# Altium footprint library HARTING Footprints.PcbLib: 317 footprints (part 12 of 20)
Each footprint in its own frame and in the unit in brackets; x right, y up, seen from the top. Pads: shape width x height; smd on the part's side, far side on the other; paste and mask are expansions set on the pad; w line width, h text height; cw(c..) or ccw(c..) is an arc to the next point about the centre after c.
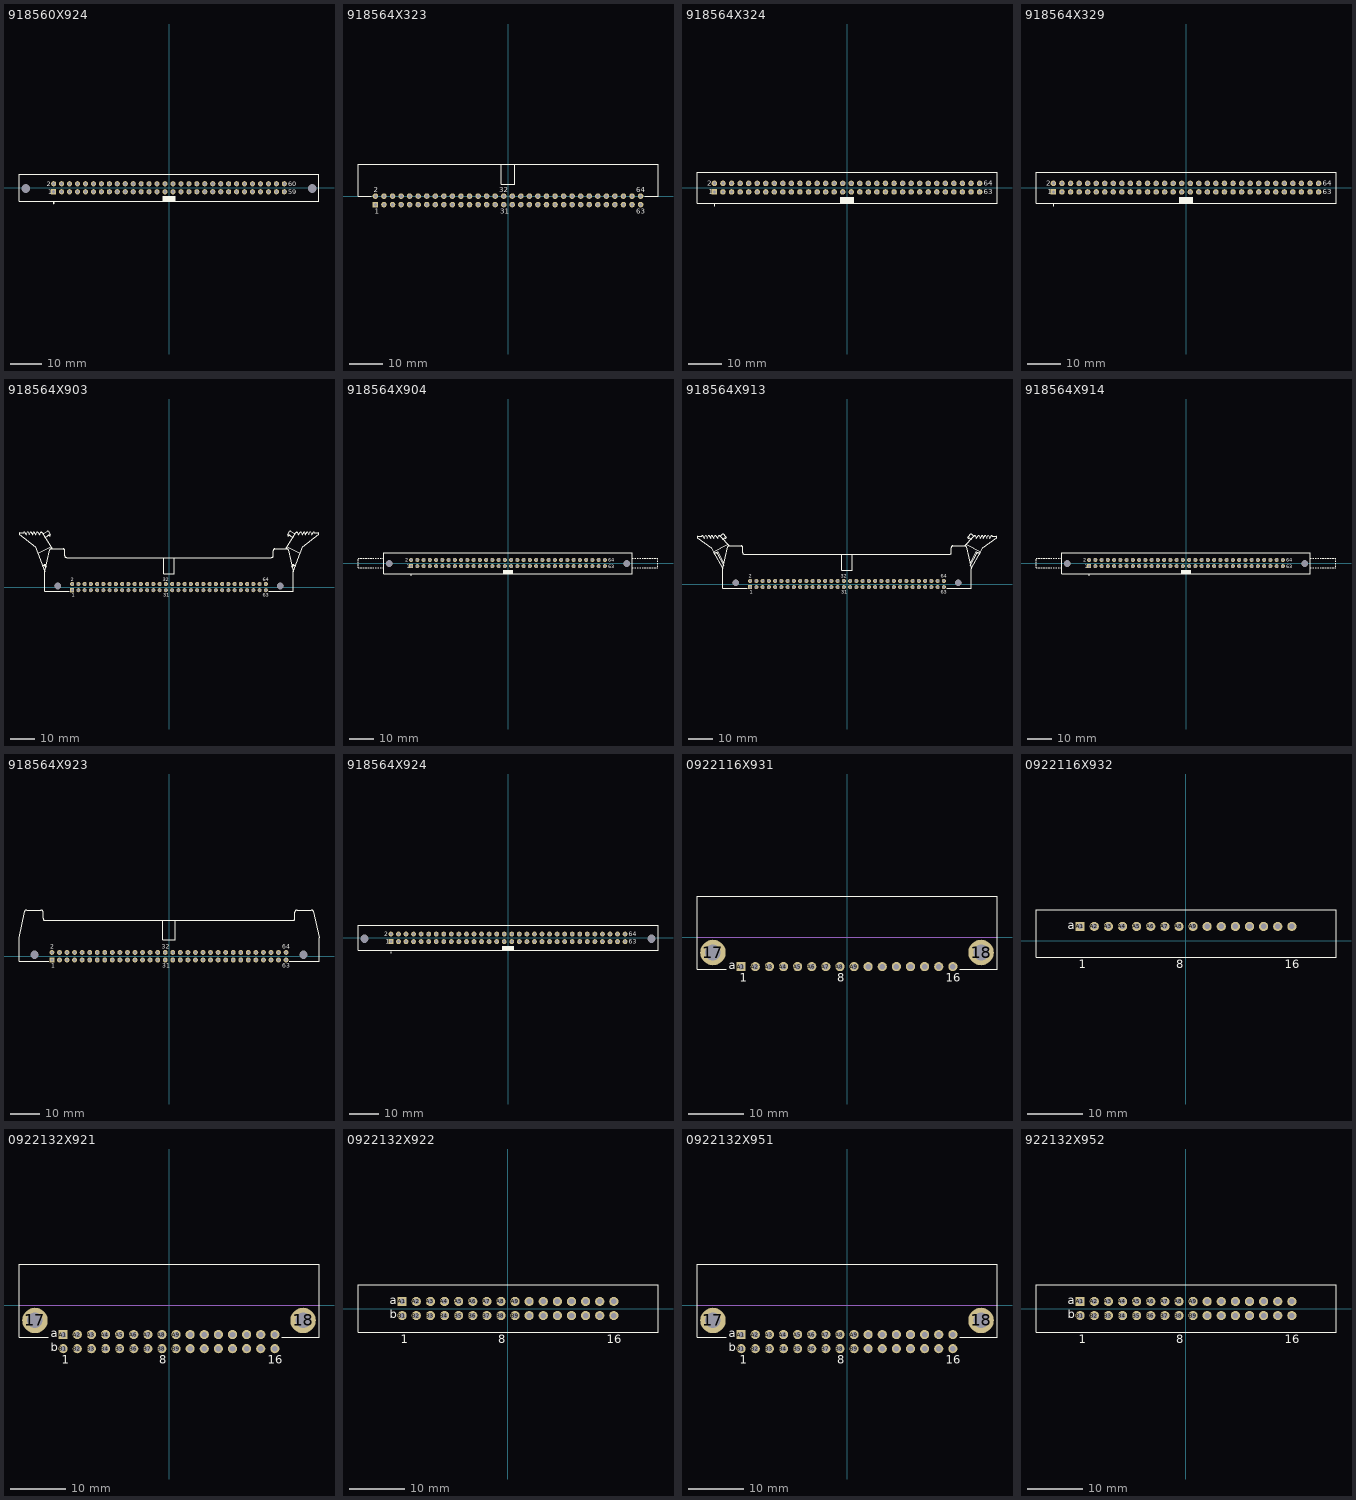
[diagram p11: the footprints below, top view; thin cyan lines are the x and y axes]

## 918560X924 [mm] "Connector; IDC, Thru-Hole; 60 Position; Vertical; Pitch 2.54 mm; Body 95.80 x 8.5 x 17.30 mm (LxWxH), Without locking levers"
height 17.3
pads (62):
  rect 1.65x1.65 hole 1: 1(-36.83,-1.27)
  round 1.65 hole 1: 2(-36.83,1.27) 3(-34.29,-1.27) 4(-34.29,1.27) 5(-31.75,-1.27) 6(-31.75,1.27) 7(-29.21,-1.27) 8(-29.21,1.27) 9(-26.67,-1.27) 10(-26.67,1.27) 11(-24.13,-1.27) 12(-24.13,1.27) 13(-21.59,-1.27) 14(-21.59,1.27) 15(-19.05,-1.27) 16(-19.05,1.27) 17(-16.51,-1.27) 18(-16.51,1.27) 19(-13.97,-1.27) 20(-13.97,1.27) 21(-11.43,-1.27) 22(-11.43,1.27) 23(-8.89,-1.27) 24(-8.89,1.27) 25(-6.35,-1.27) 26(-6.35,1.27) 27(-3.81,-1.27) 28(-3.81,1.27) 29(-1.27,-1.27) 30(-1.27,1.27) 31(1.27,-1.27) 32(1.27,1.27) 33(3.81,-1.27) 34(3.81,1.27) 35(6.35,-1.27) 36(6.35,1.27) 37(8.89,-1.27) 38(8.89,1.27) 39(11.43,-1.27) 40(11.43,1.27) 41(13.97,-1.27) 42(13.97,1.27) 43(16.51,-1.27) 44(16.51,1.27) 45(19.05,-1.27) 46(19.05,1.27) 47(21.59,-1.27) 48(21.59,1.27) 49(24.13,-1.27) 50(24.13,1.27) 51(26.67,-1.27) 52(26.67,1.27) 53(29.21,-1.27) 54(29.21,1.27) 55(31.75,-1.27) 56(31.75,1.27) 57(34.29,-1.27) 58(34.29,1.27) 59(36.83,-1.27) 60(36.83,1.27)
  round 2.5 hole 2.8 unplated: MH1(-45.72,-0.25) MH2(45.72,-0.25)
Top Overlay:
  circle w0.25: c-36.83,-4.9 r0.125
  rectangle: -2.05,-4.25 2.05,-2.7
  lines w0.2: -47.9,-4.25 47.9,-4.25 47.9,4.25 -47.9,4.25 -47.9,-4.25
  text "59" at 38.11,-2.02 h1.5
  text "60" at 38.11,0.52 h1.5
  text "1" at -38.61,-2.02 h1.5
  text "2" at -39.11,0.52 h1.5

## 918564X323 [mm] "Connector; IDC, Low Profile Male Header, Thru-Hole; 64 Position; Right Angle; Pitch 2.54 mm; Body 89.10 x 8.9 x 9.2 mm (LxWxH)"
height 9.2
pads (64):
  rect 1.65x1.65 hole 1: 1(-39.37,-2.54)
  round 1.65 hole 1: 2(-39.37,0) 3(-36.83,-2.54) 4(-36.83,0) 5(-34.29,-2.54) 6(-34.29,0) 7(-31.75,-2.54) 8(-31.75,0) 9(-29.21,-2.54) 10(-29.21,0) 11(-26.67,-2.54) 12(-26.67,0) 13(-24.13,-2.54) 14(-24.13,0) 15(-21.59,-2.54) 16(-21.59,0) 17(-19.05,-2.54) 18(-19.05,0) 19(-16.51,-2.54) 20(-16.51,0) 21(-13.97,-2.54) 22(-13.97,0) 23(-11.43,-2.54) 24(-11.43,0) 25(-8.89,-2.54) 26(-8.89,0) 27(-6.35,-2.54) 28(-6.35,0) 29(-3.81,-2.54) 30(-3.81,0) 31(-1.27,-2.54) 32(-1.27,0) 33(1.27,-2.54) 34(1.27,0) 35(3.81,-2.54) 36(3.81,0) 37(6.35,-2.54) 38(6.35,0) 39(8.89,-2.54) 40(8.89,0) 41(11.43,-2.54) 42(11.43,0) 43(13.97,-2.54) 44(13.97,0) 45(16.51,-2.54) 46(16.51,0) 47(19.05,-2.54) 48(19.05,0) 49(21.59,-2.54) 50(21.59,0) 51(24.13,-2.54) 52(24.13,0) 53(26.67,-2.54) 54(26.67,0) 55(29.21,-2.54) 56(29.21,0) 57(31.75,-2.54) 58(31.75,0) 59(34.29,-2.54) 60(34.29,0) 61(36.83,-2.54) 62(36.83,0) 63(39.37,-2.54) 64(39.37,0)
Top Overlay:
  lines w0.2: -40.595,0 -44.55,0 -44.55,9.45 44.55,9.45 44.55,0 40.595,0 ; -2.05,9.45 -2.05,3.48 2.05,3.48 2.05,9.45
  text "1" at -39.62,-5.24 h1.5
  text "2" at -39.87,1.2 h1.5
  text "31" at -2.25,-5.24 h1.5
  text "32" at -2.54,1.2 h1.5
  text "63" at 38.12,-5.24 h1.5
  text "64" at 38.12,1.2 h1.5

## 918564X324 [mm] "Connector; IDC, Low Profile Male Header, Thru-Hole; 64 Position; Vertical; Pitch 2.54 mm; Body 89.10 x 9.2 x 9.45 mm (LxWxH)"
height 9.45
pads (64):
  rect 1.65x1.65 hole 1: 1(-39.37,-1.27)
  round 1.65 hole 1: 2(-39.37,1.27) 3(-36.83,-1.27) 4(-36.83,1.27) 5(-34.29,-1.27) 6(-34.29,1.27) 7(-31.75,-1.27) 8(-31.75,1.27) 9(-29.21,-1.27) 10(-29.21,1.27) 11(-26.67,-1.27) 12(-26.67,1.27) 13(-24.13,-1.27) 14(-24.13,1.27) 15(-21.59,-1.27) 16(-21.59,1.27) 17(-19.05,-1.27) 18(-19.05,1.27) 19(-16.51,-1.27) 20(-16.51,1.27) 21(-13.97,-1.27) 22(-13.97,1.27) 23(-11.43,-1.27) 24(-11.43,1.27) 25(-8.89,-1.27) 26(-8.89,1.27) 27(-6.35,-1.27) 28(-6.35,1.27) 29(-3.81,-1.27) 30(-3.81,1.27) 31(-1.27,-1.27) 32(-1.27,1.27) 33(1.27,-1.27) 34(1.27,1.27) 35(3.81,-1.27) 36(3.81,1.27) 37(6.35,-1.27) 38(6.35,1.27) 39(8.89,-1.27) 40(8.89,1.27) 41(11.43,-1.27) 42(11.43,1.27) 43(13.97,-1.27) 44(13.97,1.27) 45(16.51,-1.27) 46(16.51,1.27) 47(19.05,-1.27) 48(19.05,1.27) 49(21.59,-1.27) 50(21.59,1.27) 51(24.13,-1.27) 52(24.13,1.27) 53(26.67,-1.27) 54(26.67,1.27) 55(29.21,-1.27) 56(29.21,1.27) 57(31.75,-1.27) 58(31.75,1.27) 59(34.29,-1.27) 60(34.29,1.27) 61(36.83,-1.27) 62(36.83,1.27) 63(39.37,-1.27) 64(39.37,1.27)
Top Overlay:
  circle w0.25: c-39.37,-5.25 r0.125
  rectangle: -2.05,-4.6 2.05,-2.75
  lines w0.2: -44.55,-4.6 44.55,-4.6 44.55,4.6 -44.55,4.6 -44.55,-4.6
  text "63" at 40.57,-2.02 h1.5
  text "64" at 40.57,0.52 h1.5
  text "1" at -41.07,-2.02 h1.5
  text "2" at -41.57,0.52 h1.5

## 918564X329 [mm] "Connector; IDC, Straight Press-in Pin, Thru-Hole; 64 Position; Vertical; Pitch 2.54 mm; Body 89.10 x 9.2 x 9.45 mm (LxWxH)"
height 9.45
pads (64):
  rect 1.65x1.65 hole 1: 1(-39.37,-1.27)
  round 1.65 hole 1: 2(-39.37,1.27) 3(-36.83,-1.27) 4(-36.83,1.27) 5(-34.29,-1.27) 6(-34.29,1.27) 7(-31.75,-1.27) 8(-31.75,1.27) 9(-29.21,-1.27) 10(-29.21,1.27) 11(-26.67,-1.27) 12(-26.67,1.27) 13(-24.13,-1.27) 14(-24.13,1.27) 15(-21.59,-1.27) 16(-21.59,1.27) 17(-19.05,-1.27) 18(-19.05,1.27) 19(-16.51,-1.27) 20(-16.51,1.27) 21(-13.97,-1.27) 22(-13.97,1.27) 23(-11.43,-1.27) 24(-11.43,1.27) 25(-8.89,-1.27) 26(-8.89,1.27) 27(-6.35,-1.27) 28(-6.35,1.27) 29(-3.81,-1.27) 30(-3.81,1.27) 31(-1.27,-1.27) 32(-1.27,1.27) 33(1.27,-1.27) 34(1.27,1.27) 35(3.81,-1.27) 36(3.81,1.27) 37(6.35,-1.27) 38(6.35,1.27) 39(8.89,-1.27) 40(8.89,1.27) 41(11.43,-1.27) 42(11.43,1.27) 43(13.97,-1.27) 44(13.97,1.27) 45(16.51,-1.27) 46(16.51,1.27) 47(19.05,-1.27) 48(19.05,1.27) 49(21.59,-1.27) 50(21.59,1.27) 51(24.13,-1.27) 52(24.13,1.27) 53(26.67,-1.27) 54(26.67,1.27) 55(29.21,-1.27) 56(29.21,1.27) 57(31.75,-1.27) 58(31.75,1.27) 59(34.29,-1.27) 60(34.29,1.27) 61(36.83,-1.27) 62(36.83,1.27) 63(39.37,-1.27) 64(39.37,1.27)
Top Overlay:
  circle w0.25: c-39.37,-5.25 r0.125
  rectangle: -2.05,-4.6 2.05,-2.75
  lines w0.2: -44.55,-4.6 44.55,-4.6 44.55,4.6 -44.55,4.6 -44.55,-4.6
  text "63" at 40.57,-2.02 h1.5
  text "64" at 40.57,0.52 h1.5
  text "1" at -41.07,-2.02 h1.5
  text "2" at -41.57,0.52 h1.5

## 918564X903 [mm] "Connector; IDC, Thru-Hole; 64 Position; Right Angle; Pitch 2.54 mm; Body 100.88 x 8.5 x 25.75 mm (LxHxW), Locking levers"
height 25.75
pads (66):
  rect 1.65x1.65 hole 1: 1(-39.37,-1.27)
  round 1.65 hole 1: 2(-39.37,1.27) 3(-36.83,-1.27) 4(-36.83,1.27) 5(-34.29,-1.27) 6(-34.29,1.27) 7(-31.75,-1.27) 8(-31.75,1.27) 9(-29.21,-1.27) 10(-29.21,1.27) 11(-26.67,-1.27) 12(-26.67,1.27) 13(-24.13,-1.27) 14(-24.13,1.27) 15(-21.59,-1.27) 16(-21.59,1.27) 17(-19.05,-1.27) 18(-19.05,1.27) 19(-16.51,-1.27) 20(-16.51,1.27) 21(-13.97,-1.27) 22(-13.97,1.27) 23(-11.43,-1.27) 24(-11.43,1.27) 25(-8.89,-1.27) 26(-8.89,1.27) 27(-6.35,-1.27) 28(-6.35,1.27) 29(-3.81,-1.27) 30(-3.81,1.27) 31(-1.27,-1.27) 32(-1.27,1.27) 33(1.27,-1.27) 34(1.27,1.27) 35(3.81,-1.27) 36(3.81,1.27) 37(6.35,-1.27) 38(6.35,1.27) 39(8.89,-1.27) 40(8.89,1.27) 41(11.43,-1.27) 42(11.43,1.27) 43(13.97,-1.27) 44(13.97,1.27) 45(16.51,-1.27) 46(16.51,1.27) 47(19.05,-1.27) 48(19.05,1.27) 49(21.59,-1.27) 50(21.59,1.27) 51(24.13,-1.27) 52(24.13,1.27) 53(26.67,-1.27) 54(26.67,1.27) 55(29.21,-1.27) 56(29.21,1.27) 57(31.75,-1.27) 58(31.75,1.27) 59(34.29,-1.27) 60(34.29,1.27) 61(36.83,-1.27) 62(36.83,1.27) 63(39.37,-1.27) 64(39.37,1.27)
  round 2.5 hole 2.8 unplated: MH1(-45.21,0.53) MH2(45.21,0.53)
Top Overlay:
  lines w0.2: -51.41,8.851 -50.445,9.3 ; -51.281,8.563 -50.61,8.877 ; -51.275,21.6 -49.552,22.725 cw(c-49.403,22.387) -49.137,22.644 -48.212,21.245 cw(c-48.532,21.225) -48.584,20.91 ccw(c-48.852,20.595) -48.987,20.985 ; -50.353,20.103 -48.99,20.991 ; -50.083,7.925 -50.61,8.877 ; -49.983,8.378 -50.445,9.3 ; -48.055,16.383 -53.279,13.84 ; -47.9,15.53 -43.055,15.53 cw(c-43.055,14.83) -42.355,14.83 -42.355,12.73 ccw(c-41.655,12.73) -41.655,12.03 41.655,12.03 ccw(c41.655,12.73) 42.355,12.73 42.355,14.83 cw(c43.055,14.83) 43.055,15.53 47.9,15.53 ; -47.89,15.53 ccw(c-47.905,14.83) -48.55,15.102 -50.44,6.23 ; -47.484,15.53 -51.618,22.058 ccw(c-51.941,21.956) -52.083,22.265 -52.49,21.301 -53.52,22.501 -54.15,21.301 -54.9,22.501 -55.45,21.301 -56.15,22.501 -56.77,21.301 -57.42,22.501 -58.02,21.301 -58.765,22.501 ; -40.595,-1.77 -50.44,-1.77 -50.44,6.23 ; -2.05,5.53 -2.05,12.03 ; -2.04,5.53 2.06,5.53 ; 2.05,5.534 2.05,12.03 ; 40.48,-1.77 50.44,-1.77 50.44,6.23 ; 47.484,15.53 51.618,22.058 cw(c51.941,21.956) 52.083,22.265 52.49,21.301 53.52,22.501 54.15,21.301 54.9,22.501 55.45,21.301 56.15,22.501 56.77,21.301 57.42,22.501 58.02,21.301 58.765,22.501 ; 47.89,15.53 cw(c47.905,14.83) 48.55,15.102 50.44,6.23 ; 48.055,16.383 53.279,13.84 ; 48.987,20.985 ccw(c48.852,20.595) 48.584,20.91 cw(c48.532,21.225) 48.212,21.245 49.137,22.644 cw(c49.403,22.387) 49.552,22.725 51.275,21.6 ; 48.99,20.991 50.353,20.103 ; 49.983,8.378 50.445,9.3 ; 50.083,7.925 50.61,8.877 ; 51.281,8.563 50.61,8.877 ; 51.41,8.851 50.445,9.3 ; -59.02,22.03 -58.765,22.501 ; -59.02,22.03 -58.765,22.501 ; -59.02,22.03 -60.631,22.03 ccw(c-60.631,21.69) -60.94,21.549 -54.405,16.455 -53.279,13.84 ; -53.279,13.84 -50.44,6.23 ; -50.61,8.877 -50.445,9.3 ; 50.44,6.23 53.279,13.84 ; 50.445,9.3 50.61,8.877 ; 53.279,13.84 54.405,16.455 60.94,21.549 ccw(c60.631,21.69) 60.631,22.03 59.02,22.03 ; 58.765,22.501 59.02,22.03 ; 58.765,22.501 59.02,22.03
  text "2" at -39.87,2.47 h1.5
  text "1" at -39.62,-3.97 h1.5
  text "64" at 38.12,2.47 h1.5
  text "63" at 38.12,-3.97 h1.5
  text "32" at -2.52,2.47 h1.5
  text "31" at -2.27,-3.97 h1.5

## 918564X904 [mm] "Connector; IDC, Thru-Hole; 64 Position; Vertical; Pitch 2.54 mm; Body 100.88 x 8.5 x 25.75 mm (LxWxH), Locking levers"
height 25.75
pads (66):
  rect 1.65x1.65 hole 1: 1(-39.37,-1.27)
  round 1.65 hole 1: 2(-39.37,1.27) 3(-36.83,-1.27) 4(-36.83,1.27) 5(-34.29,-1.27) 6(-34.29,1.27) 7(-31.75,-1.27) 8(-31.75,1.27) 9(-29.21,-1.27) 10(-29.21,1.27) 11(-26.67,-1.27) 12(-26.67,1.27) 13(-24.13,-1.27) 14(-24.13,1.27) 15(-21.59,-1.27) 16(-21.59,1.27) 17(-19.05,-1.27) 18(-19.05,1.27) 19(-16.51,-1.27) 20(-16.51,1.27) 21(-13.97,-1.27) 22(-13.97,1.27) 23(-11.43,-1.27) 24(-11.43,1.27) 25(-8.89,-1.27) 26(-8.89,1.27) 27(-6.35,-1.27) 28(-6.35,1.27) 29(-3.81,-1.27) 30(-3.81,1.27) 31(-1.27,-1.27) 32(-1.27,1.27) 33(1.27,-1.27) 34(1.27,1.27) 35(3.81,-1.27) 36(3.81,1.27) 37(6.35,-1.27) 38(6.35,1.27) 39(8.89,-1.27) 40(8.89,1.27) 41(11.43,-1.27) 42(11.43,1.27) 43(13.97,-1.27) 44(13.97,1.27) 45(16.51,-1.27) 46(16.51,1.27) 47(19.05,-1.27) 48(19.05,1.27) 49(21.59,-1.27) 50(21.59,1.27) 51(24.13,-1.27) 52(24.13,1.27) 53(26.67,-1.27) 54(26.67,1.27) 55(29.21,-1.27) 56(29.21,1.27) 57(31.75,-1.27) 58(31.75,1.27) 59(34.29,-1.27) 60(34.29,1.27) 61(36.83,-1.27) 62(36.83,1.27) 63(39.37,-1.27) 64(39.37,1.27)
  round 2.5 hole 2.8 unplated: MH1(-48.26,-0.25) MH2(48.26,-0.25)
Top Overlay:
  circle w0.25: c-39.37,-4.9 r0.125
  rectangle: -2.05,-4.25 2.05,-2.75
  lines w0.2: -60.94,-1.5 -60.94,-2 -60.44,-2 ; -60.94,-1 -60.94,-0.5 ; -60.94,0 -60.94,0.5 ; -60.94,1 -60.94,1.5 ; -60.94,2 -60.44,2 ; -59.94,-2 -59.44,-2 ; -59.94,2 -59.44,2 ; -58.94,-2 -58.44,-2 ; -58.94,2 -58.44,2 ; -57.94,-2 -57.44,-2 ; -57.94,2 -57.44,2 ; -56.94,-2 -56.44,-2 ; -56.94,2 -56.44,2 ; -55.94,-2 -55.44,-2 ; -55.94,2 -55.44,2 ; -54.94,-2 -54.44,-2 ; -54.94,2 -54.44,2 ; -53.94,-2 -53.44,-2 ; -53.94,2 -53.44,2 ; -52.94,-2 -52.44,-2 ; -52.94,2 -52.44,2 ; -51.94,-2 -51.44,-2 ; -51.94,2 -51.44,2 ; -50.94,-2 -50.44,-2 ; -50.94,2 -50.44,2 ; 50.44,-2 50.94,-2 ; 50.44,2 50.94,2 ; 51.44,-2 51.94,-2 ; 51.44,2 51.94,2 ; 52.44,-2 52.94,-2 ; 52.44,2 52.94,2 ; 53.44,-2 53.94,-2 ; 53.44,2 53.94,2 ; 54.44,-2 54.94,-2 ; 54.44,2 54.94,2 ; 55.44,-2 55.94,-2 ; 55.44,2 55.94,2 ; 56.44,-2 56.94,-2 ; 56.44,2 56.94,2 ; 57.44,-2 57.94,-2 ; 57.44,2 57.94,2 ; 58.44,-2 58.94,-2 ; 58.44,2 58.94,2 ; 59.44,-2 59.94,-2 ; 59.44,2 59.94,2 ; 60.44,-2 60.94,-2 ; 60.44,2 60.94,2 60.94,1.5 ; 60.94,-1.5 60.94,-1 ; 60.94,-0.5 60.94,0 ; 60.94,0.5 60.94,1 ; -50.44,-4.25 -50.44,4.25 50.44,4.25 50.44,-4.25 -50.44,-4.25
  text "2" at -41.65,0.52 h1.5
  text "1" at -41.15,-2.02 h1.5
  text "64" at 40.65,0.52 h1.5
  text "63" at 40.65,-2.02 h1.5

## 918564X913 [mm] "Connector; IDC, Thru-Hole; 64 Position; Right Angle; Pitch 2.54 mm; Body 100.88 x 8.5 x 23.30 mm (LxHxW), Locking levers"
height 23.3
pads (66):
  rect 1.65x1.65 hole 1: 1(-39.37,-1.27)
  round 1.65 hole 1: 2(-39.37,1.27) 3(-36.83,-1.27) 4(-36.83,1.27) 5(-34.29,-1.27) 6(-34.29,1.27) 7(-31.75,-1.27) 8(-31.75,1.27) 9(-29.21,-1.27) 10(-29.21,1.27) 11(-26.67,-1.27) 12(-26.67,1.27) 13(-24.13,-1.27) 14(-24.13,1.27) 15(-21.59,-1.27) 16(-21.59,1.27) 17(-19.05,-1.27) 18(-19.05,1.27) 19(-16.51,-1.27) 20(-16.51,1.27) 21(-13.97,-1.27) 22(-13.97,1.27) 23(-11.43,-1.27) 24(-11.43,1.27) 25(-8.89,-1.27) 26(-8.89,1.27) 27(-6.35,-1.27) 28(-6.35,1.27) 29(-3.81,-1.27) 30(-3.81,1.27) 31(-1.27,-1.27) 32(-1.27,1.27) 33(1.27,-1.27) 34(1.27,1.27) 35(3.81,-1.27) 36(3.81,1.27) 37(6.35,-1.27) 38(6.35,1.27) 39(8.89,-1.27) 40(8.89,1.27) 41(11.43,-1.27) 42(11.43,1.27) 43(13.97,-1.27) 44(13.97,1.27) 45(16.51,-1.27) 46(16.51,1.27) 47(19.05,-1.27) 48(19.05,1.27) 49(21.59,-1.27) 50(21.59,1.27) 51(24.13,-1.27) 52(24.13,1.27) 53(26.67,-1.27) 54(26.67,1.27) 55(29.21,-1.27) 56(29.21,1.27) 57(31.75,-1.27) 58(31.75,1.27) 59(34.29,-1.27) 60(34.29,1.27) 61(36.83,-1.27) 62(36.83,1.27) 63(39.37,-1.27) 64(39.37,1.27)
  round 2.5 hole 2.8 unplated: MH1(-45.21,0.53) MH2(45.21,0.53)
Top Overlay:
  lines w0.2: -54.109,12.722 -52.621,13.218 ; -53.881,12.377 -52.863,12.716 ; -50.478,18.198 -49.913,18.617 cw(c-49.777,18.227) -49.51,18.542 ccw(c-49.457,18.857) -49.138,18.877 -50.197,20.156 ccw(c-50.463,19.899) -50.612,20.238 -51.618,19.388 ; -50.193,7.442 -52.863,12.716 ; -50.046,8.195 -52.621,13.218 ; -48.56,16.204 -54.379,13.199 ; -47.947,15.533 -51.618,19.388 ; -47.9,15.53 -43.055,15.53 cw(c-43.055,14.83) -42.355,14.83 -42.355,12.73 ccw(c-41.655,12.73) -41.655,12.03 41.655,12.03 ccw(c41.655,12.73) 42.355,12.73 42.355,14.83 cw(c43.055,14.83) 43.055,15.53 47.9,15.53 ; -47.89,15.53 ccw(c-47.905,14.83) -48.55,15.102 -50.44,6.23 ; -40.595,-1.77 -50.44,-1.77 -50.44,6.23 ; -2.05,5.53 -2.05,12.03 ; -2.04,5.53 2.06,5.53 ; 2.05,5.534 2.05,12.03 ; 40.48,-1.77 50.44,-1.77 50.44,6.23 ; 47.89,15.53 cw(c47.905,14.83) 48.55,15.102 50.44,6.23 ; 47.947,15.533 51.618,19.388 ; 48.56,16.204 54.379,13.199 ; 50.046,8.195 52.621,13.218 ; 50.193,7.442 52.863,12.716 ; 50.478,18.198 49.913,18.617 ccw(c49.777,18.227) 49.51,18.542 cw(c49.457,18.857) 49.138,18.877 50.197,20.156 cw(c50.463,19.899) 50.612,20.238 51.618,19.388 ; 53.881,12.377 52.863,12.716 ; 54.109,12.722 52.621,13.218 ; -59.02,19.359 -58.764,19.83 ; -59.02,19.359 -58.764,19.83 ; -59.02,19.359 -60.631,19.359 ccw(c-60.631,19.02) -60.94,18.879 -55.185,14.654 -54.379,13.199 ; -58.764,19.83 -58.02,18.63 -57.42,19.83 -56.77,18.63 -56.15,19.83 -55.45,18.63 -54.9,19.83 -54.15,18.63 -53.52,19.83 -52.49,18.63 -52.083,19.594 cw(c-51.941,19.285) -51.618,19.388 ; -54.379,13.199 -50.44,6.23 ; -52.863,12.716 -52.621,13.218 ; 50.44,6.23 54.379,13.199 ; 51.618,19.388 cw(c51.941,19.285) 52.083,19.594 52.49,18.63 53.52,19.83 54.15,18.63 54.9,19.83 55.45,18.63 56.15,19.83 56.77,18.63 57.42,19.83 58.02,18.63 58.764,19.83 ; 52.621,13.218 52.863,12.716 ; 54.379,13.199 55.185,14.654 60.94,18.879 ccw(c60.631,19.02) 60.631,19.359 59.02,19.359 ; 58.764,19.83 59.02,19.359 ; 58.764,19.83 59.02,19.359
  text "63" at 38.12,-3.97 h1.5
  text "64" at 38.12,2.47 h1.5
  text "1" at -39.62,-3.97 h1.5
  text "2" at -39.87,2.47 h1.5
  text "32" at -2.52,2.47 h1.5
  text "31" at -2.27,-3.97 h1.5

## 918564X914 [mm] "Connector; IDC, Thru-Hole; 64 Position; Vertical; Pitch 2.54 mm; Body 100.88 x 8.5 x 23.30 mm (LxWxH), Locking levers"
height 23.3
pads (66):
  rect 1.65x1.65 hole 1: 1(-39.37,-1.27)
  round 1.65 hole 1: 2(-39.37,1.27) 3(-36.83,-1.27) 4(-36.83,1.27) 5(-34.29,-1.27) 6(-34.29,1.27) 7(-31.75,-1.27) 8(-31.75,1.27) 9(-29.21,-1.27) 10(-29.21,1.27) 11(-26.67,-1.27) 12(-26.67,1.27) 13(-24.13,-1.27) 14(-24.13,1.27) 15(-21.59,-1.27) 16(-21.59,1.27) 17(-19.05,-1.27) 18(-19.05,1.27) 19(-16.51,-1.27) 20(-16.51,1.27) 21(-13.97,-1.27) 22(-13.97,1.27) 23(-11.43,-1.27) 24(-11.43,1.27) 25(-8.89,-1.27) 26(-8.89,1.27) 27(-6.35,-1.27) 28(-6.35,1.27) 29(-3.81,-1.27) 30(-3.81,1.27) 31(-1.27,-1.27) 32(-1.27,1.27) 33(1.27,-1.27) 34(1.27,1.27) 35(3.81,-1.27) 36(3.81,1.27) 37(6.35,-1.27) 38(6.35,1.27) 39(8.89,-1.27) 40(8.89,1.27) 41(11.43,-1.27) 42(11.43,1.27) 43(13.97,-1.27) 44(13.97,1.27) 45(16.51,-1.27) 46(16.51,1.27) 47(19.05,-1.27) 48(19.05,1.27) 49(21.59,-1.27) 50(21.59,1.27) 51(24.13,-1.27) 52(24.13,1.27) 53(26.67,-1.27) 54(26.67,1.27) 55(29.21,-1.27) 56(29.21,1.27) 57(31.75,-1.27) 58(31.75,1.27) 59(34.29,-1.27) 60(34.29,1.27) 61(36.83,-1.27) 62(36.83,1.27) 63(39.37,-1.27) 64(39.37,1.27)
  round 2.5 hole 2.8 unplated: MH1(-48.26,-0.25) MH2(48.26,-0.25)
Top Overlay:
  circle w0.25: c-39.37,-4.9 r0.125
  rectangle: -2.05,-4.25 2.05,-2.75
  lines w0.2: -60.94,-1.5 -60.94,-2 -60.44,-2 ; -60.94,-1 -60.94,-0.5 ; -60.94,0 -60.94,0.5 ; -60.94,1 -60.94,1.5 ; -60.94,2 -60.44,2 ; -59.94,-2 -59.44,-2 ; -59.94,2 -59.44,2 ; -58.94,-2 -58.44,-2 ; -58.94,2 -58.44,2 ; -57.94,-2 -57.44,-2 ; -57.94,2 -57.44,2 ; -56.94,-2 -56.44,-2 ; -56.94,2 -56.44,2 ; -55.94,-2 -55.44,-2 ; -55.94,2 -55.44,2 ; -54.94,-2 -54.44,-2 ; -54.94,2 -54.44,2 ; -53.94,-2 -53.44,-2 ; -53.94,2 -53.44,2 ; -52.94,-2 -52.44,-2 ; -52.94,2 -52.44,2 ; -51.94,-2 -51.44,-2 ; -51.94,2 -51.44,2 ; -50.94,-2 -50.44,-2 ; -50.94,2 -50.44,2 ; 50.44,-2 50.94,-2 ; 50.44,2 50.94,2 ; 51.44,-2 51.94,-2 ; 51.44,2 51.94,2 ; 52.44,-2 52.94,-2 ; 52.44,2 52.94,2 ; 53.44,-2 53.94,-2 ; 53.44,2 53.94,2 ; 54.44,-2 54.94,-2 ; 54.44,2 54.94,2 ; 55.44,-2 55.94,-2 ; 55.44,2 55.94,2 ; 56.44,-2 56.94,-2 ; 56.44,2 56.94,2 ; 57.44,-2 57.94,-2 ; 57.44,2 57.94,2 ; 58.44,-2 58.94,-2 ; 58.44,2 58.94,2 ; 59.44,-2 59.94,-2 ; 59.44,2 59.94,2 ; 60.44,-2 60.94,-2 ; 60.44,2 60.94,2 60.94,1.5 ; 60.94,-1.5 60.94,-1 ; 60.94,-0.5 60.94,0 ; 60.94,0.5 60.94,1 ; -50.44,-4.25 -50.44,4.25 50.44,4.25 50.44,-4.25 -50.44,-4.25
  text "2" at -41.65,0.52 h1.5
  text "1" at -41.15,-2.02 h1.5
  text "64" at 40.65,0.52 h1.5
  text "63" at 40.65,-2.02 h1.5

## 918564X923 [mm] "Connector; IDC, Thru-Hole; 64 Position; Right Angle; Pitch 2.54 mm; Body 100.88 x 8.5 x 17.30 mm (LxHxW), Without locking levers"
height 17.3
pads (66):
  rect 1.65x1.65 hole 1: 1(-39.37,-1.27)
  round 1.65 hole 1: 2(-39.37,1.27) 3(-36.83,-1.27) 4(-36.83,1.27) 5(-34.29,-1.27) 6(-34.29,1.27) 7(-31.75,-1.27) 8(-31.75,1.27) 9(-29.21,-1.27) 10(-29.21,1.27) 11(-26.67,-1.27) 12(-26.67,1.27) 13(-24.13,-1.27) 14(-24.13,1.27) 15(-21.59,-1.27) 16(-21.59,1.27) 17(-19.05,-1.27) 18(-19.05,1.27) 19(-16.51,-1.27) 20(-16.51,1.27) 21(-13.97,-1.27) 22(-13.97,1.27) 23(-11.43,-1.27) 24(-11.43,1.27) 25(-8.89,-1.27) 26(-8.89,1.27) 27(-6.35,-1.27) 28(-6.35,1.27) 29(-3.81,-1.27) 30(-3.81,1.27) 31(-1.27,-1.27) 32(-1.27,1.27) 33(1.27,-1.27) 34(1.27,1.27) 35(3.81,-1.27) 36(3.81,1.27) 37(6.35,-1.27) 38(6.35,1.27) 39(8.89,-1.27) 40(8.89,1.27) 41(11.43,-1.27) 42(11.43,1.27) 43(13.97,-1.27) 44(13.97,1.27) 45(16.51,-1.27) 46(16.51,1.27) 47(19.05,-1.27) 48(19.05,1.27) 49(21.59,-1.27) 50(21.59,1.27) 51(24.13,-1.27) 52(24.13,1.27) 53(26.67,-1.27) 54(26.67,1.27) 55(29.21,-1.27) 56(29.21,1.27) 57(31.75,-1.27) 58(31.75,1.27) 59(34.29,-1.27) 60(34.29,1.27) 61(36.83,-1.27) 62(36.83,1.27) 63(39.37,-1.27) 64(39.37,1.27)
  round 2.5 hole 2.8 unplated: MH1(-45.21,0.53) MH2(45.21,0.53)
Top Overlay:
  lines w0.2: -48.56,15.102 -50.44,6.23 -50.44,-1.77 -40.48,-1.77 ; -48.56,15.102 cw(c-47.915,14.83) -47.9,15.53 -43.055,15.53 cw(c-43.055,14.83) -42.355,14.83 -42.355,12.73 ccw(c-41.655,12.73) -41.655,12.03 41.655,12.03 ccw(c41.655,12.73) 42.355,12.73 42.355,14.83 cw(c43.055,14.83) 43.055,15.53 47.9,15.53 ; -2.05,5.53 -2.05,12.03 ; -2.04,5.53 2.06,5.53 ; 2.05,5.534 2.05,12.03 ; 40.48,-1.77 50.44,-1.77 50.44,6.23 48.55,15.102 ccw(c47.905,14.83) 47.89,15.53
  text "63" at 38.12,-3.97 h1.5
  text "64" at 38.12,2.47 h1.5
  text "1" at -39.62,-3.97 h1.5
  text "2" at -39.87,2.47 h1.5
  text "32" at -2.52,2.47 h1.5
  text "31" at -2.27,-3.97 h1.5

## 918564X924 [mm] "Connector; IDC, Thru-Hole; 64 Position; Vertical; Pitch 2.54 mm; Body 100.88 x 8.5 x 17.30 mm (LxWxH), Without locking levers"
height 17.3
pads (66):
  rect 1.65x1.65 hole 1: 1(-39.37,-1.27)
  round 1.65 hole 1: 2(-39.37,1.27) 3(-36.83,-1.27) 4(-36.83,1.27) 5(-34.29,-1.27) 6(-34.29,1.27) 7(-31.75,-1.27) 8(-31.75,1.27) 9(-29.21,-1.27) 10(-29.21,1.27) 11(-26.67,-1.27) 12(-26.67,1.27) 13(-24.13,-1.27) 14(-24.13,1.27) 15(-21.59,-1.27) 16(-21.59,1.27) 17(-19.05,-1.27) 18(-19.05,1.27) 19(-16.51,-1.27) 20(-16.51,1.27) 21(-13.97,-1.27) 22(-13.97,1.27) 23(-11.43,-1.27) 24(-11.43,1.27) 25(-8.89,-1.27) 26(-8.89,1.27) 27(-6.35,-1.27) 28(-6.35,1.27) 29(-3.81,-1.27) 30(-3.81,1.27) 31(-1.27,-1.27) 32(-1.27,1.27) 33(1.27,-1.27) 34(1.27,1.27) 35(3.81,-1.27) 36(3.81,1.27) 37(6.35,-1.27) 38(6.35,1.27) 39(8.89,-1.27) 40(8.89,1.27) 41(11.43,-1.27) 42(11.43,1.27) 43(13.97,-1.27) 44(13.97,1.27) 45(16.51,-1.27) 46(16.51,1.27) 47(19.05,-1.27) 48(19.05,1.27) 49(21.59,-1.27) 50(21.59,1.27) 51(24.13,-1.27) 52(24.13,1.27) 53(26.67,-1.27) 54(26.67,1.27) 55(29.21,-1.27) 56(29.21,1.27) 57(31.75,-1.27) 58(31.75,1.27) 59(34.29,-1.27) 60(34.29,1.27) 61(36.83,-1.27) 62(36.83,1.27) 63(39.37,-1.27) 64(39.37,1.27)
  round 2.5 hole 2.8 unplated: MH1(-48.26,-0.25) MH2(48.26,-0.25)
Top Overlay:
  circle w0.25: c-39.37,-4.9 r0.125
  rectangle: -2.05,-4.25 2.05,-2.75
  lines w0.2: -50.44,-4.25 -50.44,4.25 50.44,4.25 50.44,-4.25 -50.44,-4.25
  text "2" at -41.65,0.52 h1.5
  text "1" at -41.15,-2.02 h1.5
  text "64" at 40.65,0.52 h1.5
  text "63" at 40.65,-2.02 h1.5

## 0922116X931 [mm] "Connector; DIN 41612, Type 2B, Thru-Hole; Row a, 16 Position; Right Angle"
height 8.6
pads (18):
  round 4.6 hole 2.8: 17(-24.13,-2.76) 18(24.13,-2.76)
  rect 1.65x1.65 hole 1: A1(-19.05,-5.3)
  round 1.65 hole 1: A2(-16.51,-5.3) A3(-13.97,-5.3) A4(-11.43,-5.3) A5(-8.89,-5.3) A6(-6.35,-5.3) A7(-3.81,-5.3) A8(-1.27,-5.3) A9(1.27,-5.3) A10(3.81,-5.3) A11(6.35,-5.3) A12(8.89,-5.3) A13(11.43,-5.3) A14(13.97,-5.3) A15(16.51,-5.3) A16(19.05,-5.3)
Top Overlay:
  lines w0.2: -21.75,-5.8 -27,-5.8 -27,7.34 27,7.34 27,-5.8 20.275,-5.8
  text "16" at 17.8,-8 h1.5
  text "8" at -1.77,-8 h1.5
  text "a" at -21.26,-5.8 h1.5
  text "1" at -19.3,-8 h1.5
Mechanical 1:
  lines w0.1: -27,0 27,0
  text "PCB Edge" at -26.15,0.5 h0.6

## 0922116X932 [mm] "Connector; DIN 41612, Type 2B, Thru-Hole; Row a, 16 Position; Vertical, No Mounting Fixture"
height 13
pads (16):
  rect 1.65x1.65 hole 1: A1(-19.05,2.54)
  round 1.65 hole 1: A2(-16.51,2.54) A3(-13.97,2.54) A4(-11.43,2.54) A5(-8.89,2.54) A6(-6.35,2.54) A7(-3.81,2.54) A8(-1.27,2.54) A9(1.27,2.54) A10(3.81,2.54) A11(6.35,2.54) A12(8.89,2.54) A13(11.43,2.54) A14(13.97,2.54) A15(16.51,2.54) A16(19.05,2.54)
Top Overlay:
  lines w0.2: -27,-2.98 27,-2.98 27,5.52 -27,5.52 -27,-2.98
  text "a" at -21.26,2.04 h1.5
  text "16" at 17.8,-4.96 h1.5
  text "8" at -1.77,-4.96 h1.5
  text "1" at -19.3,-4.96 h1.5

## 0922132X921 [mm] "Connector; DIN 41612, Type 2B, Thru-Hole; Rows a+b, 32 Position; Right Angle"
height 8.6
pads (34):
  round 4.6 hole 2.8: 17(-24.13,-2.76) 18(24.13,-2.76)
  rect 1.65x1.65 hole 1: A1(-19.05,-5.3)
  round 1.65 hole 1: A2(-16.51,-5.3) A3(-13.97,-5.3) A4(-11.43,-5.3) A5(-8.89,-5.3) A6(-6.35,-5.3) A7(-3.81,-5.3) A8(-1.27,-5.3) A9(1.27,-5.3) A10(3.81,-5.3) A11(6.35,-5.3) A12(8.89,-5.3) A13(11.43,-5.3) A14(13.97,-5.3) A15(16.51,-5.3) A16(19.05,-5.3) B1(-19.05,-7.84) B2(-16.51,-7.84) B3(-13.97,-7.84) B4(-11.43,-7.84) B5(-8.89,-7.84) B6(-6.35,-7.84) B7(-3.81,-7.84) B8(-1.27,-7.84) B9(1.27,-7.84) B10(3.81,-7.84) B11(6.35,-7.84) B12(8.89,-7.84) B13(11.43,-7.84) B14(13.97,-7.84) B15(16.51,-7.84) B16(19.05,-7.84)
Top Overlay:
  lines w0.2: -21.75,-5.8 -27,-5.8 -27,7.34 27,7.34 27,-5.8 20.275,-5.8
  text "1" at -19.3,-10.54 h1.5
  text "a" at -21.26,-5.8 h1.5
  text "b" at -21.26,-8.34 h1.5
  text "8" at -1.77,-10.54 h1.5
  text "16" at 17.8,-10.54 h1.5
Mechanical 1:
  lines w0.1: -27,0 27,0
  text "PCB Edge" at -26.15,0.5 h0.6

## 0922132X922 [mm] "Connector; DIN 41612, Type 2B, Thru-Hole; Rows a+b, 32 Position; Vertical, No Mounting Fixture"
height 13
pads (32):
  rect 1.65x1.65 hole 1: A1(-19.05,1.27)
  round 1.65 hole 1: A2(-16.51,1.27) A3(-13.97,1.27) A4(-11.43,1.27) A5(-8.89,1.27) A6(-6.35,1.27) A7(-3.81,1.27) A8(-1.27,1.27) A9(1.27,1.27) A10(3.81,1.27) A11(6.35,1.27) A12(8.89,1.27) A13(11.43,1.27) A14(13.97,1.27) A15(16.51,1.27) A16(19.05,1.27) B1(-19.05,-1.27) B2(-16.51,-1.27) B3(-13.97,-1.27) B4(-11.43,-1.27) B5(-8.89,-1.27) B6(-6.35,-1.27) B7(-3.81,-1.27) B8(-1.27,-1.27) B9(1.27,-1.27) B10(3.81,-1.27) B11(6.35,-1.27) B12(8.89,-1.27) B13(11.43,-1.27) B14(13.97,-1.27) B15(16.51,-1.27) B16(19.05,-1.27)
Top Overlay:
  lines w0.2: -27,-4.25 -27,4.25 27,4.25 27,-4.25 -27,-4.25
  text "1" at -19.3,-6.23 h1.5
  text "a" at -21.26,0.77 h1.5
  text "b" at -21.26,-1.77 h1.5
  text "8" at -1.77,-6.23 h1.5
  text "16" at 17.8,-6.23 h1.5

## 0922132X951 [mm] "Connector; DIN 41612, Type 2B, Thru-Hole; Rows a+b, 32 Position; Right Angle"
height 8.6
pads (34):
  round 4.6 hole 2.8: 17(-24.13,-2.76) 18(24.13,-2.76)
  rect 1.65x1.65 hole 1: A1(-19.05,-5.3)
  round 1.65 hole 1: A2(-16.51,-5.3) A3(-13.97,-5.3) A4(-11.43,-5.3) A5(-8.89,-5.3) A6(-6.35,-5.3) A7(-3.81,-5.3) A8(-1.27,-5.3) A9(1.27,-5.3) A10(3.81,-5.3) A11(6.35,-5.3) A12(8.89,-5.3) A13(11.43,-5.3) A14(13.97,-5.3) A15(16.51,-5.3) A16(19.05,-5.3) B1(-19.05,-7.84) B2(-16.51,-7.84) B3(-13.97,-7.84) B4(-11.43,-7.84) B5(-8.89,-7.84) B6(-6.35,-7.84) B7(-3.81,-7.84) B8(-1.27,-7.84) B9(1.27,-7.84) B10(3.81,-7.84) B11(6.35,-7.84) B12(8.89,-7.84) B13(11.43,-7.84) B14(13.97,-7.84) B15(16.51,-7.84) B16(19.05,-7.84)
Top Overlay:
  lines w0.2: -21.75,-5.8 -27,-5.8 -27,7.34 27,7.34 27,-5.8 20.275,-5.8
  text "1" at -19.3,-10.54 h1.5
  text "a" at -21.26,-5.8 h1.5
  text "b" at -21.26,-8.34 h1.5
  text "8" at -1.77,-10.54 h1.5
  text "16" at 17.8,-10.54 h1.5
Mechanical 1:
  lines w0.1: -27,0 27,0
  text "PCB Edge" at -26.15,0.5 h0.6

## 922132X952 [mm] "Connector; DIN 41612, Type 2B, Thru-Hole; Rows a+b, 32 Position; Vertical"
height 13
pads (32):
  rect 1.65x1.65 hole 1: A1(-19.05,1.27)
  round 1.65 hole 1: A2(-16.51,1.27) A3(-13.97,1.27) A4(-11.43,1.27) A5(-8.89,1.27) A6(-6.35,1.27) A7(-3.81,1.27) A8(-1.27,1.27) A9(1.27,1.27) A10(3.81,1.27) A11(6.35,1.27) A12(8.89,1.27) A13(11.43,1.27) A14(13.97,1.27) A15(16.51,1.27) A16(19.05,1.27) B1(-19.05,-1.27) B2(-16.51,-1.27) B3(-13.97,-1.27) B4(-11.43,-1.27) B5(-8.89,-1.27) B6(-6.35,-1.27) B7(-3.81,-1.27) B8(-1.27,-1.27) B9(1.27,-1.27) B10(3.81,-1.27) B11(6.35,-1.27) B12(8.89,-1.27) B13(11.43,-1.27) B14(13.97,-1.27) B15(16.51,-1.27) B16(19.05,-1.27)
Top Overlay:
  lines w0.2: -27,-4.25 -27,4.25 27,4.25 27,-4.25 -27,-4.25
  text "1" at -19.3,-6.23 h1.5
  text "a" at -21.26,0.77 h1.5
  text "b" at -21.26,-1.77 h1.5
  text "8" at -1.77,-6.23 h1.5
  text "16" at 17.8,-6.23 h1.5